# EAGLE library part ETH_MAG (library 000001)
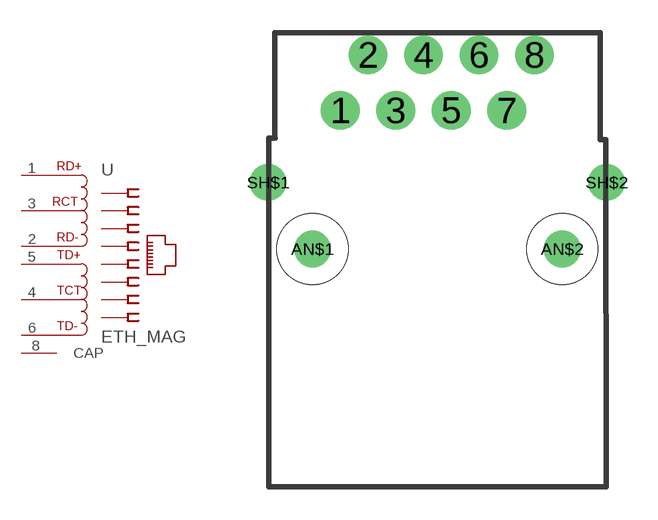
[diagram p124: symbol with the pads of 557785-1; footprint 557785-1]

Designator prefix -

## ETH_MAG  [557785-1]
1  RD+  pas
2  RD-  pas
3  RCT  pas
4  TCT  pas
5  TD+  pas
6  TD-  pas
8  CAP

## Footprint 557785-1 (pad centres in mm)
Modular Jack
drill 0.5 pad 1.778 round: 1 -4.445,6.35; 2 -3.175,8.89; 3 -1.905,6.35; 4 -0.635,8.89; 5 0.635,6.35; 6 1.905,8.89; 7 3.175,6.35; 8 4.445,8.89
drill 0.8 pad 1.676 round: AN$1 -5.715,0; AN$2 5.715,0
drill 0.5 pad 1.676 round: SH$1 -7.747,3.048; SH$2 7.747,3.048
hole 3.251 at -5.715,0
hole 3.251 at 5.715,0